# Altium integrated library Renesas Transistor.IntLib: 835 symbols (part 4 of 18)
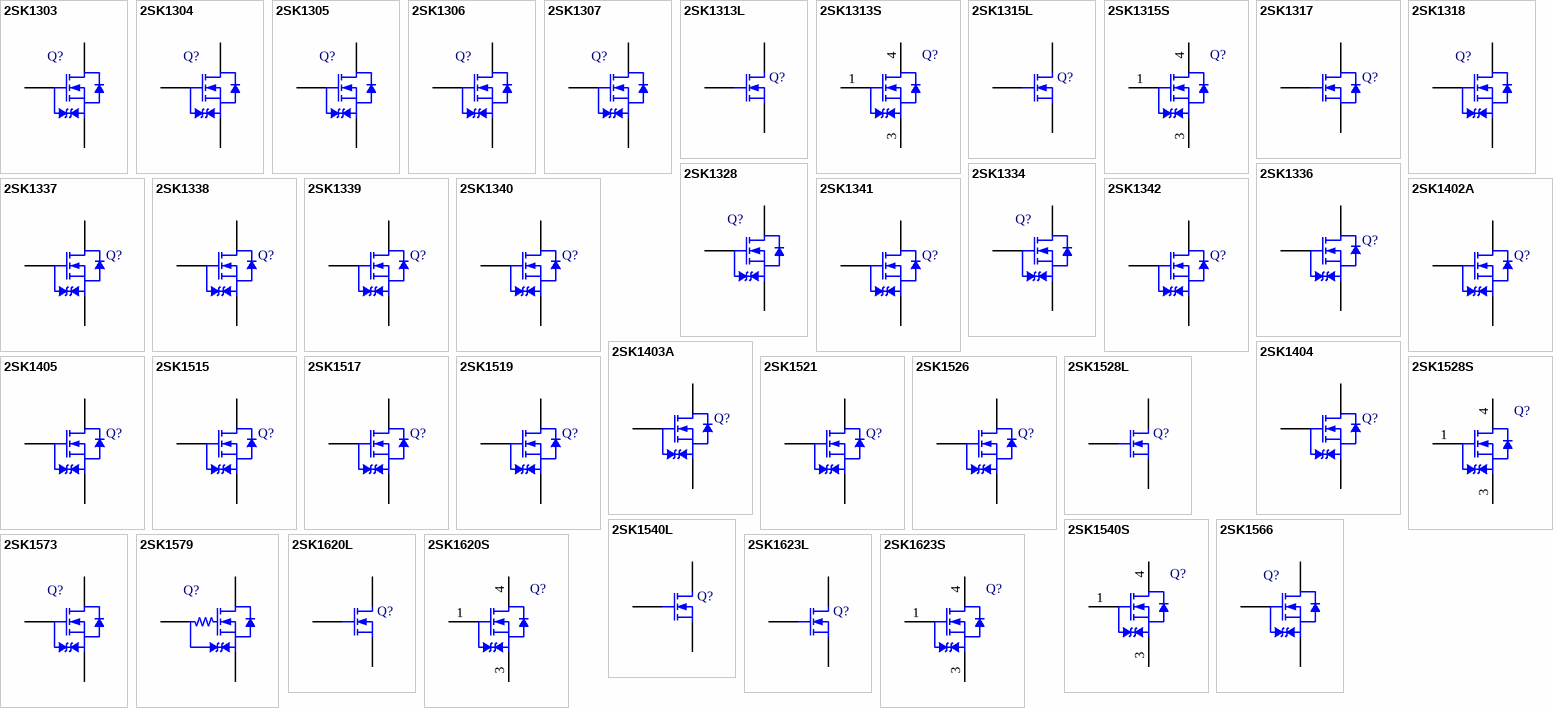
[diagram p25: symbols 2SK1303 to 2SK1623S]

## 2SK1528S
designator Q?
Silicon N-Channel MOSFET; Published: 30-Oct-2009; DatasheetVersion: Rev.2.00, Sep-2005; PackageVersion: Sep-2005; PackageReference: PRSS0004AE-B; Publisher: Altium Limited; PackageDescription: 3-Pin Plastic Transistor Outline Package 8.6 x 10.2 mm Body (LDPAK(S)-(1)); Code_JEITA: SC-83; ComponentLink1Description: Manufacturer Link; ComponentLink1URL: http://sg.renesas.com/fmwk.jsp?cnt=discrete_category_landing.jsp&fp=/products/discrete/; ComponentLink2Description: Datasheet; ComponentLink2URL: http://documentation.renesas.com/eng/products/transistor/rej03g0951_2sk1528lsds.pdf; ComponentLink3Description: Packaging Specification; ComponentLink3URL: http://sg.renesas.com/media/products/common_info/package/pdf/transistor/code/prss0004ae_b.pdf
footprint PRSS0004AE-B_N (TO, 4-Leads, Body 8.6x10.2mm, Pitch 2.54mm, Lead Span 12.8mm, IPC Medium Density)
footprint PRSS0004AE-B_L (TO, 4-Leads, Body 8.6x10.2mm, Pitch 2.54mm, Lead Span 12.8mm, IPC High Density)
footprint PRSS0004AE-B_M (TO, 4-Leads, Body 8.6x10.2mm, Pitch 2.54mm, Lead Span 12.8mm, IPC Low Density)
pins: 1 G, 3 S, 4 D

## 2SK1540L
designator Q?
Silicon N-Channel MOSFET; Published: 30-Oct-2009; DatasheetVersion: Rev.2.00, Sep-2005; PackageVersion: Sep-2005; PackageReference: PRSS0004AE-A; Publisher: Altium Limited; PackageDescription: TO, Thru-Hole, Vertical, Heatsink Mounted; 3 In-Line Leads; Pitch 2.54 mm (LDPAK(L)); ComponentLink1Description: Manufacturer Link; ComponentLink1URL: http://sg.renesas.com/fmwk.jsp?cnt=discrete_category_landing.jsp&fp=/products/discrete/; ComponentLink2Description: Datasheet; ComponentLink2URL: http://documentation.renesas.com/eng/products/transistor/rej03g0952_2sk1540lsds.pdf; ComponentLink3Description: Packaging Specification; ComponentLink3URL: http://sg.renesas.com/media/products/common_info/package/pdf/transistor/code/prss0004ae_a.pdf
footprint PRSS0004AE-A (TO, Thru-Hole, Vertical, Heatsink Mounted; 3 In-Line Leads; Pitch 2.54 mm)
pins: 1 G, 2 D, 3 S

## 2SK1540S
designator Q?
Silicon N-Channel MOSFET; Published: 30-Oct-2009; DatasheetVersion: Rev.2.00, Sep-2005; PackageVersion: Sep-2005; PackageReference: PRSS0004AE-B; Publisher: Altium Limited; PackageDescription: 3-Pin Plastic Transistor Outline Package 8.6 x 10.2 mm Body (LDPAK(S)-(1)); Code_JEITA: SC-83; ComponentLink1Description: Manufacturer Link; ComponentLink1URL: http://sg.renesas.com/fmwk.jsp?cnt=discrete_category_landing.jsp&fp=/products/discrete/; ComponentLink2Description: Datasheet; ComponentLink2URL: http://documentation.renesas.com/eng/products/transistor/rej03g0952_2sk1540lsds.pdf; ComponentLink3Description: Packaging Specification; ComponentLink3URL: http://sg.renesas.com/media/products/common_info/package/pdf/transistor/code/prss0004ae_b.pdf
footprint PRSS0004AE-B_N (TO, 4-Leads, Body 8.6x10.2mm, Pitch 2.54mm, Lead Span 12.8mm, IPC Medium Density)
footprint PRSS0004AE-B_L (TO, 4-Leads, Body 8.6x10.2mm, Pitch 2.54mm, Lead Span 12.8mm, IPC High Density)
footprint PRSS0004AE-B_M (TO, 4-Leads, Body 8.6x10.2mm, Pitch 2.54mm, Lead Span 12.8mm, IPC Low Density)
pins: 1 G, 3 S, 4 D

## 2SK1566
designator Q?
Silicon N-Channel MOSFET; Published: 30-Oct-2009; DatasheetVersion: Rev.2.00, Sep-2005; PackageVersion: Sep-2005; PackageReference: PRSS0003AD-A; Publisher: Altium Limited; PackageDescription: TO, Thru-Hole, Vertical, Heatsink Mounted; 3 In-Line Leads; Pitch 2.54 mm; Code_JEITA: SC-67; ComponentLink1Description: Manufacturer Link; ComponentLink1URL: http://sg.renesas.com/fmwk.jsp?cnt=discrete_category_landing.jsp&fp=/products/discrete/; ComponentLink2Description: Datasheet; ComponentLink2URL: http://documentation.renesas.com/eng/products/transistor/rej03g0953_2sk1566ds.pdf; ComponentLink3Description: Packaging Specification; ComponentLink3URL: http://sg.renesas.com/media/products/common_info/package/pdf/transistor/code/prss0003ad_a.pdf
footprint PRSS0003AD-A (TO, Thru-Hole, Vertical, Heatsink Mounted; 3 In-Line Leads; Pitch 2.54 mm)
pins: 1 G, 2 D, 3 S

## 2SK1573
designator Q?
Silicon N-Channel MOSFET; Published: 30-Oct-2009; DatasheetVersion: Rev.2.00, Sep-2005; PackageVersion: Sep-2005; PackageReference: PRSS0004ZE-A; Publisher: Altium Limited; PackageDescription: TO, Thru-Hole, Vertical, Heatsink Mounted; 3 In-Line Leads; Pitch 5.45 mm (TO-3P); Code_JEITA: SC-65; ComponentLink1Description: Manufacturer Link; ComponentLink1URL: http://sg.renesas.com/fmwk.jsp?cnt=discrete_category_landing.jsp&fp=/products/discrete/; ComponentLink2Description: Datasheet; ComponentLink2URL: http://documentation.renesas.com/eng/products/transistor/rej03g0955_2sk1573ds.pdf; ComponentLink3Description: Packaging Specification; ComponentLink3URL: http://sg.renesas.com/media/products/common_info/package/pdf/transistor/code/prss0004ze_a.pdf
footprint PRSS0004ZE-A (TO, Thru-Hole, Vertical, Heatsink Mounted; 3 In-Line Leads; Pitch 5.45 mm)
pins: 1 G, 2 D, 3 S

## 2SK1579
designator Q?
Silicon N-Channel MOSFET; Published: 30-Oct-2009; DatasheetVersion: Rev.2.00, Sep-2005; PackageVersion: Jan-2005; PackageReference: PLZZ0004CA-A; Publisher: Altium Limited; PackageDescription: 3-Pin Plastic SOT-89 Package 1.5 mm Pitch, 4 mm Lead Span; Code_JEITA: SC-62; Code_IPC: SOT89; ComponentLink1Description: Manufacturer Link; ComponentLink1URL: http://sg.renesas.com/fmwk.jsp?cnt=discrete_category_landing.jsp&fp=/products/discrete/; ComponentLink2Description: Datasheet; ComponentLink2URL: http://documentation.renesas.com/eng/products/transistor/rej03g0956_2sk1579ds.pdf; ComponentLink3Description: Packaging Specification; ComponentLink3URL: http://sg.renesas.com/media/products/common_info/package/pdf/transistor/code/plzz0004ca_a.pdf
footprint PLZZ0004CA-A_N (SOT89, 3-Leads, Body 4.5x2.5 mm, Pitch 1.5mm, Lead Span 4mm, IPC Medium Density)
footprint PLZZ0004CA-A_L (SOT89, 3-Leads, Body 4.5x2.5 mm, Pitch 1.5mm, Lead Span 4mm, IPC High Density)
footprint PLZZ0004CA-A_M (SOT89, 3-Leads, Body 4.5x2.5 mm, Pitch 1.5mm, Lead Span 4mm, IPC Low Density)
pins: 1 G, 2 D, 3 S

## 2SK1620L
designator Q?
Silicon N-Channel MOSFET; Published: 30-Oct-2009; DatasheetVersion: Rev.2.00, Sep-2005; PackageVersion: Sep-2005; PackageReference: PRSS0004AE-A; Publisher: Altium Limited; PackageDescription: TO, Thru-Hole, Vertical, Heatsink Mounted; 3 In-Line Leads; Pitch 2.54 mm (LDPAK(L)); ComponentLink1Description: Manufacturer Link; ComponentLink1URL: http://sg.renesas.com/fmwk.jsp?cnt=discrete_category_landing.jsp&fp=/products/discrete/; ComponentLink2Description: Datasheet; ComponentLink2URL: http://documentation.renesas.com/eng/products/transistor/rej03g0957_2sk1620lsds.pdf; ComponentLink3Description: Packaging Specification; ComponentLink3URL: http://sg.renesas.com/media/products/common_info/package/pdf/transistor/code/prss0004ae_a.pdf
footprint PRSS0004AE-A (TO, Thru-Hole, Vertical, Heatsink Mounted; 3 In-Line Leads; Pitch 2.54 mm)
pins: 1 G, 2 D, 3 S

## 2SK1620S
designator Q?
Silicon N-Channel MOSFET; Published: 30-Oct-2009; DatasheetVersion: Rev.2.00, Sep-2005; PackageVersion: Sep-2005; PackageReference: PRSS0004AE-B; Publisher: Altium Limited; PackageDescription: 3-Pin Plastic Transistor Outline Package 8.6 x 10.2 mm Body (LDPAK(S)-(1)); Code_JEITA: SC-83; ComponentLink1Description: Manufacturer Link; ComponentLink1URL: http://sg.renesas.com/fmwk.jsp?cnt=discrete_category_landing.jsp&fp=/products/discrete/; ComponentLink2Description: Datasheet; ComponentLink2URL: http://documentation.renesas.com/eng/products/transistor/rej03g0957_2sk1620lsds.pdf; ComponentLink3Description: Packaging Specification; ComponentLink3URL: http://sg.renesas.com/media/products/common_info/package/pdf/transistor/code/prss0004ae_b.pdf
footprint PRSS0004AE-B_N (TO, 4-Leads, Body 8.6x10.2mm, Pitch 2.54mm, Lead Span 12.8mm, IPC Medium Density)
footprint PRSS0004AE-B_L (TO, 4-Leads, Body 8.6x10.2mm, Pitch 2.54mm, Lead Span 12.8mm, IPC High Density)
footprint PRSS0004AE-B_M (TO, 4-Leads, Body 8.6x10.2mm, Pitch 2.54mm, Lead Span 12.8mm, IPC Low Density)
pins: 1 G, 3 S, 4 D

## 2SK1623L
designator Q?
Silicon N-Channel MOSFET; Published: 30-Oct-2009; DatasheetVersion: Rev.3.00, Jan-2006; PackageVersion: Sep-2005; PackageReference: PRSS0004AE-A; Publisher: Altium Limited; PackageDescription: TO, Thru-Hole, Vertical, Heatsink Mounted; 3 In-Line Leads; Pitch 2.54 mm (LDPAK(L)); ComponentLink1Description: Manufacturer Link; ComponentLink1URL: http://sg.renesas.com/fmwk.jsp?cnt=discrete_category_landing.jsp&fp=/products/discrete/; ComponentLink2Description: Datasheet; ComponentLink2URL: http://documentation.renesas.com/eng/products/transistor/rej03g0958_2sk1623lsds.pdf; ComponentLink3Description: Packaging Specification; ComponentLink3URL: http://sg.renesas.com/media/products/common_info/package/pdf/transistor/code/prss0004ae_a.pdf
footprint PRSS0004AE-A (TO, Thru-Hole, Vertical, Heatsink Mounted; 3 In-Line Leads; Pitch 2.54 mm)
pins: 1 G, 2 D, 3 S

## 2SK1623S
designator Q?
Silicon N-Channel MOSFET; Published: 30-Oct-2009; DatasheetVersion: Rev.3.00, Jan-2006; PackageVersion: Sep-2005; PackageReference: PRSS0004AE-B; Publisher: Altium Limited; PackageDescription: 3-Pin Plastic Transistor Outline Package 8.6 x 10.2 mm Body (LDPAK(S)-(1)); Code_JEITA: SC-83; ComponentLink1Description: Manufacturer Link; ComponentLink1URL: http://sg.renesas.com/fmwk.jsp?cnt=discrete_category_landing.jsp&fp=/products/discrete/; ComponentLink2Description: Datasheet; ComponentLink2URL: http://documentation.renesas.com/eng/products/transistor/rej03g0958_2sk1623lsds.pdf; ComponentLink3Description: Packaging Specification; ComponentLink3URL: http://sg.renesas.com/media/products/common_info/package/pdf/transistor/code/prss0004ae_b.pdf
footprint PRSS0004AE-B_N (TO, 4-Leads, Body 8.6x10.2mm, Pitch 2.54mm, Lead Span 12.8mm, IPC Medium Density)
footprint PRSS0004AE-B_L (TO, 4-Leads, Body 8.6x10.2mm, Pitch 2.54mm, Lead Span 12.8mm, IPC High Density)
footprint PRSS0004AE-B_M (TO, 4-Leads, Body 8.6x10.2mm, Pitch 2.54mm, Lead Span 12.8mm, IPC Low Density)
pins: 1 G, 3 S, 4 D

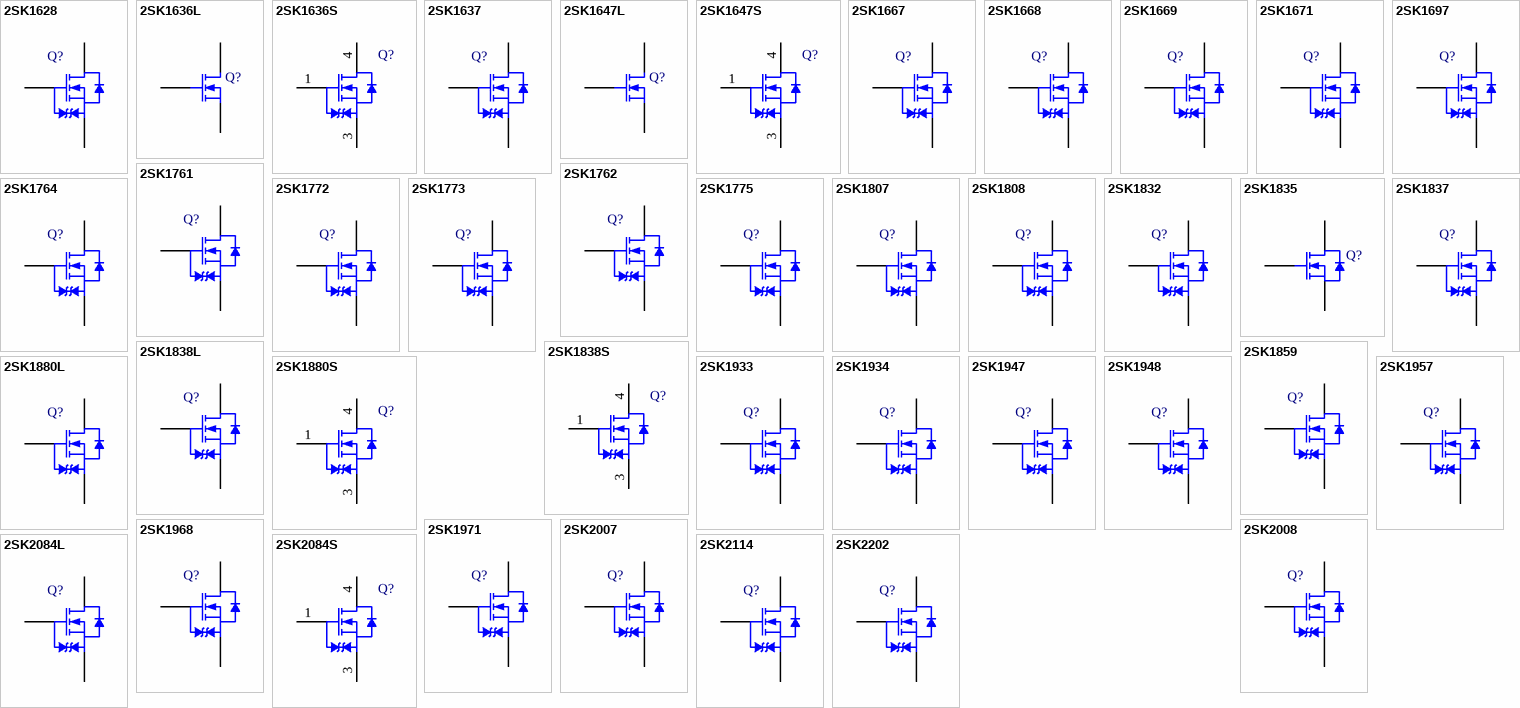
[diagram p4: symbols 2SK1628 to 2SK2202]

## 2SK1628
designator Q?
Silicon N-Channel MOSFET; Published: 30-Oct-2009; DatasheetVersion: Rev.4.00, May-2009; PackageVersion: Sep-2005; PackageReference: PRSS0004ZF-A; Publisher: Altium Limited; PackageDescription: SIP with Mounting Hole; 3 Leads; Body 26 x 20 x 5 mm (typ); Pitch 5.45 mm (TO-3PL); ComponentLink1Description: Manufacturer Link; ComponentLink1URL: http://sg.renesas.com/fmwk.jsp?cnt=discrete_category_landing.jsp&fp=/products/discrete/; ComponentLink2Description: Datasheet; ComponentLink2URL: http://documentation.renesas.com/eng/products/transistor/rej03g0960_2sk1628ds.pdf; ComponentLink3Description: Packaging Specification; ComponentLink3URL: http://sg.renesas.com/media/products/common_info/package/pdf/transistor/code/prss0004zf_a.pdf
footprint PRSS0004ZF-A (SIP with Mounting Hole; 3 Leads; Body 26 x 20 x 5 mm (typ); Pitch 5.45 mm)
pins: 1 G, 2 D, 3 S

## 2SK1636L
designator Q?
Silicon N-Channel MOSFET; Published: 30-Oct-2009; DatasheetVersion: Rev.2.00, Sep-2005; PackageVersion: Sep-2005; PackageReference: PRSS0004AE-A; Publisher: Altium Limited; PackageDescription: TO, Thru-Hole, Vertical, Heatsink Mounted; 3 In-Line Leads; Pitch 2.54 mm (LDPAK(L)); ComponentLink1Description: Manufacturer Link; ComponentLink1URL: http://sg.renesas.com/fmwk.jsp?cnt=discrete_category_landing.jsp&fp=/products/discrete/; ComponentLink2Description: Datasheet; ComponentLink2URL: http://documentation.renesas.com/eng/products/transistor/rej03g0961_2sk1636lsds.pdf; ComponentLink3Description: Packaging Specification; ComponentLink3URL: http://sg.renesas.com/media/products/common_info/package/pdf/transistor/code/prss0004ae_a.pdf
footprint PRSS0004AE-A (TO, Thru-Hole, Vertical, Heatsink Mounted; 3 In-Line Leads; Pitch 2.54 mm)
pins: 1 G, 2 D, 3 S

## 2SK1636S
designator Q?
Silicon N-Channel MOSFET; Published: 30-Oct-2009; DatasheetVersion: Rev.2.00, Sep-2005; PackageVersion: Sep-2005; PackageReference: PRSS0004AE-B; Publisher: Altium Limited; PackageDescription: 3-Pin Plastic Transistor Outline Package 8.6 x 10.2 mm Body (LDPAK(S)-(1)); Code_JEITA: SC-83; ComponentLink1Description: Manufacturer Link; ComponentLink1URL: http://sg.renesas.com/fmwk.jsp?cnt=discrete_category_landing.jsp&fp=/products/discrete/; ComponentLink2Description: Datasheet; ComponentLink2URL: http://documentation.renesas.com/eng/products/transistor/rej03g0961_2sk1636lsds.pdf; ComponentLink3Description: Packaging Specification; ComponentLink3URL: http://sg.renesas.com/media/products/common_info/package/pdf/transistor/code/prss0004ae_b.pdf
footprint PRSS0004AE-B_N (TO, 4-Leads, Body 8.6x10.2mm, Pitch 2.54mm, Lead Span 12.8mm, IPC Medium Density)
footprint PRSS0004AE-B_L (TO, 4-Leads, Body 8.6x10.2mm, Pitch 2.54mm, Lead Span 12.8mm, IPC High Density)
footprint PRSS0004AE-B_M (TO, 4-Leads, Body 8.6x10.2mm, Pitch 2.54mm, Lead Span 12.8mm, IPC Low Density)
pins: 1 G, 3 S, 4 D

## 2SK1637
designator Q?
Silicon N-Channel MOSFET; Published: 30-Oct-2009; DatasheetVersion: Rev.2.00, Sep-2005; PackageVersion: Sep-2005; PackageReference: PRSS0003AD-A; Publisher: Altium Limited; PackageDescription: TO, Thru-Hole, Vertical, Heatsink Mounted; 3 In-Line Leads; Pitch 2.54 mm; Code_JEITA: SC-67; ComponentLink1Description: Manufacturer Link; ComponentLink1URL: http://sg.renesas.com/fmwk.jsp?cnt=discrete_category_landing.jsp&fp=/products/discrete/; ComponentLink2Description: Datasheet; ComponentLink2URL: http://documentation.renesas.com/eng/products/transistor/rej03g0962_2sk1637ds.pdf; ComponentLink3Description: Packaging Specification; ComponentLink3URL: http://sg.renesas.com/media/products/common_info/package/pdf/transistor/code/prss0003ad_a.pdf
footprint PRSS0003AD-A (TO, Thru-Hole, Vertical, Heatsink Mounted; 3 In-Line Leads; Pitch 2.54 mm)
pins: 1 G, 2 D, 3 S

## 2SK1647L
designator Q?
Silicon N-Channel MOSFET; Published: 30-Oct-2009; DatasheetVersion: Rev.2.00, Sep-2005; PackageVersion: Sep-2005; PackageReference: PRSS0004AE-A; Publisher: Altium Limited; PackageDescription: TO, Thru-Hole, Vertical, Heatsink Mounted; 3 In-Line Leads; Pitch 2.54 mm (LDPAK(L)); ComponentLink1Description: Manufacturer Link; ComponentLink1URL: http://sg.renesas.com/fmwk.jsp?cnt=discrete_category_landing.jsp&fp=/products/discrete/; ComponentLink2Description: Datasheet; ComponentLink2URL: http://documentation.renesas.com/eng/products/transistor/rej03g0963_2sk1647lsds.pdf; ComponentLink3Description: Packaging Specification; ComponentLink3URL: http://sg.renesas.com/media/products/common_info/package/pdf/transistor/code/prss0004ae_a.pdf
footprint PRSS0004AE-A (TO, Thru-Hole, Vertical, Heatsink Mounted; 3 In-Line Leads; Pitch 2.54 mm)
pins: 1 G, 2 D, 3 S

## 2SK1647S
designator Q?
Silicon N-Channel MOSFET; Published: 30-Oct-2009; DatasheetVersion: Rev.2.00, Sep-2005; PackageVersion: Sep-2005; PackageReference: PRSS0004AE-B; Publisher: Altium Limited; PackageDescription: 3-Pin Plastic Transistor Outline Package 8.6 x 10.2 mm Body (LDPAK(S)-(1)); Code_JEITA: SC-83; ComponentLink1Description: Manufacturer Link; ComponentLink1URL: http://sg.renesas.com/fmwk.jsp?cnt=discrete_category_landing.jsp&fp=/products/discrete/; ComponentLink2Description: Datasheet; ComponentLink2URL: http://documentation.renesas.com/eng/products/transistor/rej03g0963_2sk1647lsds.pdf; ComponentLink3Description: Packaging Specification; ComponentLink3URL: http://sg.renesas.com/media/products/common_info/package/pdf/transistor/code/prss0004ae_b.pdf
footprint PRSS0004AE-B_N (TO, 4-Leads, Body 8.6x10.2mm, Pitch 2.54mm, Lead Span 12.8mm, IPC Medium Density)
footprint PRSS0004AE-B_L (TO, 4-Leads, Body 8.6x10.2mm, Pitch 2.54mm, Lead Span 12.8mm, IPC High Density)
footprint PRSS0004AE-B_M (TO, 4-Leads, Body 8.6x10.2mm, Pitch 2.54mm, Lead Span 12.8mm, IPC Low Density)
pins: 1 G, 3 S, 4 D

## 2SK1667
designator Q?
Silicon N-Channel MOSFET; Published: 30-Oct-2009; DatasheetVersion: Rev.2.00, Sep-2005; PackageVersion: Sep-2005; PackageReference: PRSS0004AC-A; Publisher: Altium Limited; PackageDescription: TO, Thru-Hole, Vertical, Heatsink Mounted; 3 In-Line Leads; Pitch 2.54 mm (TO-220AB); Code_JEITA: SC-46; ComponentLink1Description: Manufacturer Link; ComponentLink1URL: http://sg.renesas.com/fmwk.jsp?cnt=discrete_category_landing.jsp&fp=/products/discrete/; ComponentLink2Description: Datasheet; ComponentLink2URL: http://documentation.renesas.com/eng/products/transistor/rej03g0964_2sk1667ds.pdf; ComponentLink3Description: Packaging Specification; ComponentLink3URL: http://sg.renesas.com/media/products/common_info/package/pdf/transistor/code/prss0004ac_a.pdf
footprint PRSS0004AC-A (TO, Thru-Hole, Vertical, Heatsink Mounted; 3 In-Line Leads; Pitch 2.54 mm)
pins: 1 G, 2 D, 3 S

## 2SK1668
designator Q?
Silicon N-Channel MOSFET; Published: 30-Oct-2009; DatasheetVersion: Rev.2.00, Sep-2005; PackageVersion: Sep-2005; PackageReference: PRSS0003AD-A; Publisher: Altium Limited; PackageDescription: TO, Thru-Hole, Vertical, Heatsink Mounted; 3 In-Line Leads; Pitch 2.54 mm; Code_JEITA: SC-67; ComponentLink1Description: Manufacturer Link; ComponentLink1URL: http://sg.renesas.com/fmwk.jsp?cnt=discrete_category_landing.jsp&fp=/products/discrete/; ComponentLink2Description: Datasheet; ComponentLink2URL: http://documentation.renesas.com/eng/products/transistor/rej03g0965_2sk1668ds.pdf; ComponentLink3Description: Packaging Specification; ComponentLink3URL: http://sg.renesas.com/media/products/common_info/package/pdf/transistor/code/prss0003ad_a.pdf
footprint PRSS0003AD-A (TO, Thru-Hole, Vertical, Heatsink Mounted; 3 In-Line Leads; Pitch 2.54 mm)
pins: 1 G, 2 D, 3 S

## 2SK1669
designator Q?
Silicon N-Channel MOSFET; Published: 30-Oct-2009; DatasheetVersion: Rev.2.00, Sep-2005; PackageVersion: Sep-2005; PackageReference: PRSS0004ZE-A; Publisher: Altium Limited; PackageDescription: TO, Thru-Hole, Vertical, Heatsink Mounted; 3 In-Line Leads; Pitch 5.45 mm (TO-3P); Code_JEITA: SC-65; ComponentLink1Description: Manufacturer Link; ComponentLink1URL: http://sg.renesas.com/fmwk.jsp?cnt=discrete_category_landing.jsp&fp=/products/discrete/; ComponentLink2Description: Datasheet; ComponentLink2URL: http://documentation.renesas.com/eng/products/transistor/rej03g0966_2sk1669ds.pdf; ComponentLink3Description: Packaging Specification; ComponentLink3URL: http://sg.renesas.com/media/products/common_info/package/pdf/transistor/code/prss0004ze_a.pdf
footprint PRSS0004ZE-A (TO, Thru-Hole, Vertical, Heatsink Mounted; 3 In-Line Leads; Pitch 5.45 mm)
pins: 1 G, 2 D, 3 S

## 2SK1671
designator Q?
Silicon N-Channel MOSFET; Published: 30-Oct-2009; DatasheetVersion: Rev.2.00, Sep-2005; PackageVersion: Sep-2005; PackageReference: PRSS0004ZE-A; Publisher: Altium Limited; PackageDescription: TO, Thru-Hole, Vertical, Heatsink Mounted; 3 In-Line Leads; Pitch 5.45 mm (TO-3P); Code_JEITA: SC-65; ComponentLink1Description: Manufacturer Link; ComponentLink1URL: http://sg.renesas.com/fmwk.jsp?cnt=discrete_category_landing.jsp&fp=/products/discrete/; ComponentLink2Description: Datasheet; ComponentLink2URL: http://documentation.renesas.com/eng/products/transistor/rej03g0967_2sk1671ds.pdf; ComponentLink3Description: Packaging Specification; ComponentLink3URL: http://sg.renesas.com/media/products/common_info/package/pdf/transistor/code/prss0004ze_a.pdf
footprint PRSS0004ZE-A (TO, Thru-Hole, Vertical, Heatsink Mounted; 3 In-Line Leads; Pitch 5.45 mm)
pins: 1 G, 2 D, 3 S

## 2SK1697
designator Q?
Silicon N Chanel MOSFET; Published: 30-Oct-2009; DatasheetVersion: Rev.2.00, May-2006; PackageVersion: Jan-2005; PackageReference: PLZZ0004CA-A; Publisher: Altium Limited; PackageDescription: 3-Pin Plastic SOT-89 Package 1.5 mm Pitch, 4 mm Lead Span; Code_JEITA: SC-62; Code_IPC: SOT89; ComponentLink1Description: Manufacturer Link; ComponentLink1URL: http://sg.renesas.com/fmwk.jsp?cnt=discrete_category_landing.jsp&fp=/products/discrete/; ComponentLink2Description: Datasheet; ComponentLink2URL: http://documentation.renesas.com/eng/products/transistor/rej03g1373_2sk1697ds.pdf; ComponentLink3Description: Packaging Specification; ComponentLink3URL: http://sg.renesas.com/media/products/common_info/package/pdf/transistor/code/plzz0004ca_a.pdf
footprint PLZZ0004CA-A_N (SOT89, 3-Leads, Body 4.5x2.5 mm, Pitch 1.5mm, Lead Span 4mm, IPC Medium Density)
footprint PLZZ0004CA-A_L (SOT89, 3-Leads, Body 4.5x2.5 mm, Pitch 1.5mm, Lead Span 4mm, IPC High Density)
footprint PLZZ0004CA-A_M (SOT89, 3-Leads, Body 4.5x2.5 mm, Pitch 1.5mm, Lead Span 4mm, IPC Low Density)
pins: 1 G, 2 D, 3 S

## 2SK1761
designator Q?
Silicon N-Channel MOSFET; Published: 30-Oct-2009; DatasheetVersion: Rev.2.00, Sep-2005; PackageVersion: Sep-2005; PackageReference: PRSS0004AC-A; Publisher: Altium Limited; PackageDescription: TO, Thru-Hole, Vertical, Heatsink Mounted; 3 In-Line Leads; Pitch 2.54 mm (TO-220AB); Code_JEITA: SC-46; ComponentLink1Description: Manufacturer Link; ComponentLink1URL: http://sg.renesas.com/fmwk.jsp?cnt=discrete_category_landing.jsp&fp=/products/discrete/; ComponentLink2Description: Datasheet; ComponentLink2URL: http://documentation.renesas.com/eng/products/transistor/rej03g0968_2sk1761ds.pdf; ComponentLink3Description: Packaging Specification; ComponentLink3URL: http://sg.renesas.com/media/products/common_info/package/pdf/transistor/code/prss0004ac_a.pdf
footprint PRSS0004AC-A (TO, Thru-Hole, Vertical, Heatsink Mounted; 3 In-Line Leads; Pitch 2.54 mm)
pins: 1 G, 2 D, 3 S

## 2SK1762
designator Q?
Silicon N-Channel MOSFET; Published: 30-Oct-2009; DatasheetVersion: Rev.2.00, Sep-2005; PackageVersion: Sep-2005; PackageReference: PRSS0003AD-A; Publisher: Altium Limited; PackageDescription: TO, Thru-Hole, Vertical, Heatsink Mounted; 3 In-Line Leads; Pitch 2.54 mm; Code_JEITA: SC-67; ComponentLink1Description: Manufacturer Link; ComponentLink1URL: http://sg.renesas.com/fmwk.jsp?cnt=discrete_category_landing.jsp&fp=/products/discrete/; ComponentLink2Description: Datasheet; ComponentLink2URL: http://documentation.renesas.com/eng/products/transistor/rej03g0969_2sk1762ds.pdf; ComponentLink3Description: Packaging Specification; ComponentLink3URL: http://sg.renesas.com/media/products/common_info/package/pdf/transistor/code/prss0003ad_a.pdf
footprint PRSS0003AD-A (TO, Thru-Hole, Vertical, Heatsink Mounted; 3 In-Line Leads; Pitch 2.54 mm)
pins: 1 G, 2 D, 3 S

## 2SK1764
designator Q?
Silicon N-Channel MOSFET; Published: 30-Oct-2009; DatasheetVersion: Rev.2.00, Sep-2005; PackageVersion: Jan-2005; PackageReference: PLZZ0004CA-A; Publisher: Altium Limited; PackageDescription: 3-Pin Plastic SOT-89 Package 1.5 mm Pitch, 4 mm Lead Span; Code_JEITA: SC-62; Code_IPC: SOT89; ComponentLink1Description: Manufacturer Link; ComponentLink1URL: http://sg.renesas.com/fmwk.jsp?cnt=discrete_category_landing.jsp&fp=/products/discrete/; ComponentLink2Description: Datasheet; ComponentLink2URL: http://documentation.renesas.com/eng/products/transistor/rej03g0970_2sk1764ds.pdf; ComponentLink3Description: Packaging Specification; ComponentLink3URL: http://sg.renesas.com/media/products/common_info/package/pdf/transistor/code/plzz0004ca_a.pdf
footprint PLZZ0004CA-A_N (SOT89, 3-Leads, Body 4.5x2.5 mm, Pitch 1.5mm, Lead Span 4mm, IPC Medium Density)
footprint PLZZ0004CA-A_L (SOT89, 3-Leads, Body 4.5x2.5 mm, Pitch 1.5mm, Lead Span 4mm, IPC High Density)
footprint PLZZ0004CA-A_M (SOT89, 3-Leads, Body 4.5x2.5 mm, Pitch 1.5mm, Lead Span 4mm, IPC Low Density)
pins: 1 G, 2 D, 3 S

## 2SK1772
designator Q?
Silicon N-Channel MOSFET; Published: 30-Oct-2009; DatasheetVersion: Rev.2.00, Sep-2005; PackageVersion: Jan-2005; PackageReference: PLZZ0004CA-A; Publisher: Altium Limited; PackageDescription: 3-Pin Plastic SOT-89 Package 1.5 mm Pitch, 4 mm Lead Span; Code_JEITA: SC-62; Code_IPC: SOT89; ComponentLink1Description: Manufacturer Link; ComponentLink1URL: http://sg.renesas.com/fmwk.jsp?cnt=discrete_category_landing.jsp&fp=/products/discrete/; ComponentLink2Description: Datasheet; ComponentLink2URL: http://documentation.renesas.com/eng/products/transistor/rej03g0971_2sk1772ds.pdf; ComponentLink3Description: Packaging Specification; ComponentLink3URL: http://sg.renesas.com/media/products/common_info/package/pdf/transistor/code/plzz0004ca_a.pdf
footprint PLZZ0004CA-A_N (SOT89, 3-Leads, Body 4.5x2.5 mm, Pitch 1.5mm, Lead Span 4mm, IPC Medium Density)
footprint PLZZ0004CA-A_L (SOT89, 3-Leads, Body 4.5x2.5 mm, Pitch 1.5mm, Lead Span 4mm, IPC High Density)
footprint PLZZ0004CA-A_M (SOT89, 3-Leads, Body 4.5x2.5 mm, Pitch 1.5mm, Lead Span 4mm, IPC Low Density)
pins: 1 G, 2 D, 3 S

## 2SK1773
designator Q?
Silicon N-Channel MOSFET; Published: 30-Oct-2009; DatasheetVersion: Rev.2.00, Sep-2005; PackageVersion: Sep-2005; PackageReference: PRSS0004ZE-A; Publisher: Altium Limited; PackageDescription: TO, Thru-Hole, Vertical, Heatsink Mounted; 3 In-Line Leads; Pitch 5.45 mm (TO-3P); Code_JEITA: SC-65; ComponentLink1Description: Manufacturer Link; ComponentLink1URL: http://sg.renesas.com/fmwk.jsp?cnt=discrete_category_landing.jsp&fp=/products/discrete/; ComponentLink2Description: Datasheet; ComponentLink2URL: http://documentation.renesas.com/eng/products/transistor/rej03g0972_2sk1773ds.pdf; ComponentLink3Description: Packaging Specification; ComponentLink3URL: http://sg.renesas.com/media/products/common_info/package/pdf/transistor/code/prss0004ze_a.pdf
footprint PRSS0004ZE-A (TO, Thru-Hole, Vertical, Heatsink Mounted; 3 In-Line Leads; Pitch 5.45 mm)
pins: 1 G, 2 D, 3 S

## 2SK1775
designator Q?
Silicon N-Channel MOSFET; Published: 30-Oct-2009; DatasheetVersion: Rev.2.00, Sep-2005; PackageVersion: Sep-2005; PackageReference: PRSS0003ZA-A; Publisher: Altium Limited; PackageDescription: SIP with Mounting Hole; 3 Leads; Body 19.9 x 15.6 x 5.5 mm (typ); Pitch 5.45 mm (TO-3PFM); Code_JEITA: SC-93; ComponentLink1Description: Manufacturer Link; ComponentLink1URL: http://sg.renesas.com/fmwk.jsp?cnt=discrete_category_landing.jsp&fp=/products/discrete/; ComponentLink2Description: Datasheet; ComponentLink2URL: http://documentation.renesas.com/eng/products/transistor/rej03g0973_2sk1775ds.pdf; ComponentLink3Description: Packaging Specification; ComponentLink3URL: http://sg.renesas.com/media/products/common_info/package/pdf/transistor/code/prss0003za_a.pdf
footprint PRSS0003ZA-A (SIP with Mounting Hole; 3 Leads; Body 19.9 x 15.6 x 5.5 mm (typ); Pitch 5.45 mm)
pins: 1 G, 2 D, 3 S

## 2SK1807
designator Q?
Silicon N-Channel MOSFET; Published: 30-Oct-2009; DatasheetVersion: Rev.2.00, Sep-2005; PackageVersion: Sep-2005; PackageReference: PRSS0004AC-A; Publisher: Altium Limited; PackageDescription: TO, Thru-Hole, Vertical, Heatsink Mounted; 3 In-Line Leads; Pitch 2.54 mm (TO-220AB); Code_JEITA: SC-46; ComponentLink1Description: Manufacturer Link; ComponentLink1URL: http://sg.renesas.com/fmwk.jsp?cnt=discrete_category_landing.jsp&fp=/products/discrete/; ComponentLink2Description: Datasheet; ComponentLink2URL: http://documentation.renesas.com/eng/products/transistor/rej03g0974_2sk1807ds.pdf; ComponentLink3Description: Packaging Specification; ComponentLink3URL: http://sg.renesas.com/media/products/common_info/package/pdf/transistor/code/prss0004ac_a.pdf
footprint PRSS0004AC-A (TO, Thru-Hole, Vertical, Heatsink Mounted; 3 In-Line Leads; Pitch 2.54 mm)
pins: 1 G, 2 D, 3 S

## 2SK1808
designator Q?
Silicon N-Channel MOSFET; Published: 30-Oct-2009; DatasheetVersion: Rev.2.00, Sep-2005; PackageVersion: Sep-2005; PackageReference: PRSS0003AD-A; Publisher: Altium Limited; PackageDescription: TO, Thru-Hole, Vertical, Heatsink Mounted; 3 In-Line Leads; Pitch 2.54 mm; Code_JEITA: SC-67; ComponentLink1Description: Manufacturer Link; ComponentLink1URL: http://sg.renesas.com/fmwk.jsp?cnt=discrete_category_landing.jsp&fp=/products/discrete/; ComponentLink2Description: Datasheet; ComponentLink2URL: http://documentation.renesas.com/eng/products/transistor/rej03g0975_2sk1808ds.pdf; ComponentLink3Description: Packaging Specification; ComponentLink3URL: http://sg.renesas.com/media/products/common_info/package/pdf/transistor/code/prss0003ad_a.pdf
footprint PRSS0003AD-A (TO, Thru-Hole, Vertical, Heatsink Mounted; 3 In-Line Leads; Pitch 2.54 mm)
pins: 1 G, 2 D, 3 S

## 2SK1832
designator Q?
Silicon N-Channel MOSFET; Published: 30-Oct-2009; DatasheetVersion: Rev.2.00, Sep-2005; PackageVersion: Sep-2005; PackageReference: PRSS0003ZA-A; Publisher: Altium Limited; PackageDescription: SIP with Mounting Hole; 3 Leads; Body 19.9 x 15.6 x 5.5 mm (typ); Pitch 5.45 mm (TO-3PFM); Code_JEITA: SC-93; ComponentLink1Description: Manufacturer Link; ComponentLink1URL: http://sg.renesas.com/fmwk.jsp?cnt=discrete_category_landing.jsp&fp=/products/discrete/; ComponentLink2Description: Datasheet; ComponentLink2URL: http://documentation.renesas.com/eng/products/transistor/rej03g0977_2sk1832ds.pdf; ComponentLink3Description: Packaging Specification; ComponentLink3URL: http://sg.renesas.com/media/products/common_info/package/pdf/transistor/code/prss0003za_a.pdf
footprint PRSS0003ZA-A (SIP with Mounting Hole; 3 Leads; Body 19.9 x 15.6 x 5.5 mm (typ); Pitch 5.45 mm)
pins: 1 G, 2 D, 3 S

## 2SK1835
designator Q?
Silicon N-Channel MOSFET; Published: 30-Oct-2009; DatasheetVersion: Rev.4.00, Jun-2008; PackageVersion: Sep-2005; PackageReference: PRSS0004ZE-A; Publisher: Altium Limited; PackageDescription: TO, Thru-Hole, Vertical, Heatsink Mounted; 3 In-Line Leads; Pitch 5.45 mm (TO-3P); Code_JEITA: SC-65; ComponentLink1Description: Manufacturer Link; ComponentLink1URL: http://sg.renesas.com/fmwk.jsp?cnt=discrete_category_landing.jsp&fp=/products/discrete/; ComponentLink2Description: Datasheet; ComponentLink2URL: http://documentation.renesas.com/eng/products/transistor/rej03g0978_2sk1835ds.pdf; ComponentLink3Description: Packaging Specification; ComponentLink3URL: http://sg.renesas.com/media/products/common_info/package/pdf/transistor/code/prss0004ze_a.pdf
footprint PRSS0004ZE-A (TO, Thru-Hole, Vertical, Heatsink Mounted; 3 In-Line Leads; Pitch 5.45 mm)
pins: 1 G, 2 D, 3 S

## 2SK1837
designator Q?
Silicon N-Channel MOSFET; Published: 30-Oct-2009; DatasheetVersion: Rev.3.00, May-2009; PackageVersion: Sep-2005; PackageReference: PRSS0004ZF-A; Publisher: Altium Limited; PackageDescription: SIP with Mounting Hole; 3 Leads; Body 26 x 20 x 5 mm (typ); Pitch 5.45 mm (TO-3PL); ComponentLink1Description: Manufacturer Link; ComponentLink1URL: http://sg.renesas.com/fmwk.jsp?cnt=discrete_category_landing.jsp&fp=/products/discrete/; ComponentLink2Description: Datasheet; ComponentLink2URL: http://documentation.renesas.com/eng/products/transistor/rej03g0979_2sk1837ds.pdf; ComponentLink3Description: Packaging Specification; ComponentLink3URL: http://sg.renesas.com/media/products/common_info/package/pdf/transistor/code/prss0004zf_a.pdf
footprint PRSS0004ZF-A (SIP with Mounting Hole; 3 Leads; Body 26 x 20 x 5 mm (typ); Pitch 5.45 mm)
pins: 1 G, 2 D, 3 S

## 2SK1838L
designator Q?
Silicon N-Channel MOSFET; Published: 30-Oct-2009; DatasheetVersion: Rev.3.00, Nov-2005; PackageVersion: Sep-2005; PackageReference: PRSS0004ZD-A; Publisher: Altium Limited; PackageDescription: TO, Thru-Hole, Vertical, Heatsink Mounted; 3 In-Line Leads (DPAK(L)-(1)); ComponentLink1Description: Manufacturer Link; ComponentLink1URL: http://sg.renesas.com/fmwk.jsp?cnt=discrete_category_landing.jsp&fp=/products/discrete/; ComponentLink2Description: Datasheet; ComponentLink2URL: http://documentation.renesas.com/eng/products/transistor/rej03g0980_2sk1838lsds.pdf; ComponentLink3Description: Packaging Specification; ComponentLink3URL: http://sg.renesas.com/media/products/common_info/package/pdf/transistor/code/prss0004zd_a.pdf
footprint PRSS0004ZD-A (TO, Thru-Hole, Vertical, Heatsink Mounted; 3 In-Line Leads; Pitch 2.28 mm)
pins: 1 G, 2 D, 3 S

## 2SK1838S
designator Q?
Silicon N-Channel MOSFET; Published: 30-Oct-2009; DatasheetVersion: Rev.3.00, Nov-2005; PackageVersion: Jan-2006; PackageReference: PRSS0004ZD-C; Publisher: Altium Limited; PackageDescription: 3-Pin Plastic Transistor Outline Package, 5.5 x 6.5 mm Body (DPAK(S)); Code_JEITA: SC-63; ComponentLink1Description: Manufacturer Link; ComponentLink1URL: http://sg.renesas.com/fmwk.jsp?cnt=discrete_category_landing.jsp&fp=/products/discrete/; ComponentLink2Description: Datasheet; ComponentLink2URL: http://documentation.renesas.com/eng/products/transistor/rej03g0980_2sk1838lsds.pdf; ComponentLink3Description: Packaging Specification; ComponentLink3URL: http://sg.renesas.com/media/products/common_info/package/pdf/transistor/code/prss0004zd_c.pdf
footprint PRSS0004ZD-C_N (D-PAK, 4-Leads, Body 5.5x6.5mm, Pitch 2.3mm, Lead Span 9.9mm, IPC Medium Density)
footprint PRSS0004ZD-C_L (D-PAK, 4-Leads, Body 5.5x6.5mm, Pitch 2.3mm, Lead Span 9.9mm, IPC High Density)
footprint PRSS0004ZD-C_M (D-PAK, 4-Leads, Body 5.5x6.5mm, Pitch 2.3mm, Lead Span 9.9mm, IPC Low Density)
pins: 1 G, 3 S, 4 D

## 2SK1859
designator Q?
Silicon N-Channel MOSFET; Published: 30-Oct-2009; DatasheetVersion: Rev.2.00, Sep-2005; PackageVersion: Sep-2005; PackageReference: PRSS0003ZA-A; Publisher: Altium Limited; PackageDescription: SIP with Mounting Hole; 3 Leads; Body 19.9 x 15.6 x 5.5 mm (typ); Pitch 5.45 mm (TO-3PFM); Code_JEITA: SC-93; ComponentLink1Description: Manufacturer Link; ComponentLink1URL: http://sg.renesas.com/fmwk.jsp?cnt=discrete_category_landing.jsp&fp=/products/discrete/; ComponentLink2Description: Datasheet; ComponentLink2URL: http://documentation.renesas.com/eng/products/transistor/rej03g0981_2sk1859ds.pdf; ComponentLink3Description: Packaging Specification; ComponentLink3URL: http://sg.renesas.com/media/products/common_info/package/pdf/transistor/code/prss0003za_a.pdf
footprint PRSS0003ZA-A (SIP with Mounting Hole; 3 Leads; Body 19.9 x 15.6 x 5.5 mm (typ); Pitch 5.45 mm)
pins: 1 G, 2 D, 3 S

## 2SK1880L
designator Q?
Silicon N-Channel MOSFET; Published: 30-Oct-2009; DatasheetVersion: Rev.2.00, Sep-2005; PackageVersion: Sep-2005; PackageReference: PRSS0004ZD-A; Publisher: Altium Limited; PackageDescription: TO, Thru-Hole, Vertical, Heatsink Mounted; 3 In-Line Leads (DPAK(L)-(1)); ComponentLink1Description: Manufacturer Link; ComponentLink1URL: http://sg.renesas.com/fmwk.jsp?cnt=discrete_category_landing.jsp&fp=/products/discrete/; ComponentLink2Description: Datasheet; ComponentLink2URL: http://documentation.renesas.com/eng/products/transistor/rej03g0983_2sk1880lsds.pdf; ComponentLink3Description: Packaging Specification; ComponentLink3URL: http://sg.renesas.com/media/products/common_info/package/pdf/transistor/code/prss0004zd_a.pdf
footprint PRSS0004ZD-A (TO, Thru-Hole, Vertical, Heatsink Mounted; 3 In-Line Leads; Pitch 2.28 mm)
pins: 1 G, 2 D, 3 S

## 2SK1880S
designator Q?
Silicon N-Channel MOSFET; Published: 30-Oct-2009; DatasheetVersion: Rev.2.00, Sep-2005; PackageVersion: Jan-2006; PackageReference: PRSS0004ZD-C; Publisher: Altium Limited; PackageDescription: 3-Pin Plastic Transistor Outline Package, 5.5 x 6.5 mm Body (DPAK(S)); Code_JEITA: SC-63; ComponentLink1Description: Manufacturer Link; ComponentLink1URL: http://sg.renesas.com/fmwk.jsp?cnt=discrete_category_landing.jsp&fp=/products/discrete/; ComponentLink2Description: Datasheet; ComponentLink2URL: http://documentation.renesas.com/eng/products/transistor/rej03g0983_2sk1880lsds.pdf; ComponentLink3Description: Packaging Specification; ComponentLink3URL: http://sg.renesas.com/media/products/common_info/package/pdf/transistor/code/prss0004zd_c.pdf
footprint PRSS0004ZD-C_N (D-PAK, 4-Leads, Body 5.5x6.5mm, Pitch 2.3mm, Lead Span 9.9mm, IPC Medium Density)
footprint PRSS0004ZD-C_L (D-PAK, 4-Leads, Body 5.5x6.5mm, Pitch 2.3mm, Lead Span 9.9mm, IPC High Density)
footprint PRSS0004ZD-C_M (D-PAK, 4-Leads, Body 5.5x6.5mm, Pitch 2.3mm, Lead Span 9.9mm, IPC Low Density)
pins: 1 G, 3 S, 4 D

## 2SK1933
designator Q?
Silicon N-Channel MOSFET; Published: 30-Oct-2009; DatasheetVersion: Rev.3.00, Apr-2006; PackageVersion: Sep-2005; PackageReference: PRSS0004ZE-A; Publisher: Altium Limited; PackageDescription: TO, Thru-Hole, Vertical, Heatsink Mounted; 3 In-Line Leads; Pitch 5.45 mm (TO-3P); Code_JEITA: SC-65; ComponentLink1Description: Manufacturer Link; ComponentLink1URL: http://sg.renesas.com/fmwk.jsp?cnt=discrete_category_landing.jsp&fp=/products/discrete/; ComponentLink2Description: Datasheet; ComponentLink2URL: http://documentation.renesas.com/eng/products/transistor/rej03g0984_2sk1933ds.pdf; ComponentLink3Description: Packaging Specification; ComponentLink3URL: http://sg.renesas.com/media/products/common_info/package/pdf/transistor/code/prss0004ze_a.pdf
footprint PRSS0004ZE-A (TO, Thru-Hole, Vertical, Heatsink Mounted; 3 In-Line Leads; Pitch 5.45 mm)
pins: 1 G, 2 D, 3 S

## 2SK1934
designator Q?
Silicon N-Channel MOSFET; Published: 30-Oct-2009; DatasheetVersion: Rev.2.00, Sep-2005; PackageVersion: Sep-2005; PackageReference: PRSS0004ZE-A; Publisher: Altium Limited; PackageDescription: TO, Thru-Hole, Vertical, Heatsink Mounted; 3 In-Line Leads; Pitch 5.45 mm (TO-3P); Code_JEITA: SC-65; ComponentLink1Description: Manufacturer Link; ComponentLink1URL: http://sg.renesas.com/fmwk.jsp?cnt=discrete_category_landing.jsp&fp=/products/discrete/; ComponentLink2Description: Datasheet; ComponentLink2URL: http://documentation.renesas.com/eng/products/transistor/rej03g0985_2sk1934ds.pdf; ComponentLink3Description: Packaging Specification; ComponentLink3URL: http://sg.renesas.com/media/products/common_info/package/pdf/transistor/code/prss0004ze_a.pdf
footprint PRSS0004ZE-A (TO, Thru-Hole, Vertical, Heatsink Mounted; 3 In-Line Leads; Pitch 5.45 mm)
pins: 1 G, 2 D, 3 S

## 2SK1947
designator Q?
Silicon N-Channel MOSFET; Published: 30-Oct-2009; DatasheetVersion: Rev.3.00, May-2009; PackageVersion: Sep-2005; PackageReference: PRSS0004ZF-A; Publisher: Altium Limited; PackageDescription: SIP with Mounting Hole; 3 Leads; Body 26 x 20 x 5 mm (typ); Pitch 5.45 mm (TO-3PL); ComponentLink1Description: Manufacturer Link; ComponentLink1URL: http://sg.renesas.com/fmwk.jsp?cnt=discrete_category_landing.jsp&fp=/products/discrete/; ComponentLink2Description: Datasheet; ComponentLink2URL: http://documentation.renesas.com/eng/products/transistor/rej03g0986_2sk1947ds.pdf; ComponentLink3Description: Packaging Specification; ComponentLink3URL: http://sg.renesas.com/media/products/common_info/package/pdf/transistor/code/prss0004zf_a.pdf
footprint PRSS0004ZF-A (SIP with Mounting Hole; 3 Leads; Body 26 x 20 x 5 mm (typ); Pitch 5.45 mm)
pins: 1 G, 2 D, 3 S

## 2SK1948
designator Q?
Silicon N-Channel MOSFET; Published: 30-Oct-2009; DatasheetVersion: Rev.3.00, May-2009; PackageVersion: Sep-2005; PackageReference: PRSS0004ZF-A; Publisher: Altium Limited; PackageDescription: SIP with Mounting Hole; 3 Leads; Body 26 x 20 x 5 mm (typ); Pitch 5.45 mm (TO-3PL); ComponentLink1Description: Manufacturer Link; ComponentLink1URL: http://sg.renesas.com/fmwk.jsp?cnt=discrete_category_landing.jsp&fp=/products/discrete/; ComponentLink2Description: Datasheet; ComponentLink2URL: http://documentation.renesas.com/eng/products/transistor/rej03g0987_2sk1948ds.pdf; ComponentLink3Description: Packaging Specification; ComponentLink3URL: http://sg.renesas.com/media/products/common_info/package/pdf/transistor/code/prss0004zf_a.pdf
footprint PRSS0004ZF-A (SIP with Mounting Hole; 3 Leads; Body 26 x 20 x 5 mm (typ); Pitch 5.45 mm)
pins: 1 G, 2 D, 3 S

## 2SK1957
designator Q?
Silicon N-Channel MOSFET; Published: 30-Oct-2009; DatasheetVersion: Rev.2.00, Sep-2005; PackageVersion: Sep-2005; PackageReference: PRSS0003AD-A; Publisher: Altium Limited; PackageDescription: TO, Thru-Hole, Vertical, Heatsink Mounted; 3 In-Line Leads; Pitch 2.54 mm; Code_JEITA: SC-67; ComponentLink1Description: Manufacturer Link; ComponentLink1URL: http://sg.renesas.com/fmwk.jsp?cnt=discrete_category_landing.jsp&fp=/products/discrete/; ComponentLink2Description: Datasheet; ComponentLink2URL: http://documentation.renesas.com/eng/products/transistor/rej03g0988_2sk1957ds.pdf; ComponentLink3Description: Packaging Specification; ComponentLink3URL: http://sg.renesas.com/media/products/common_info/package/pdf/transistor/code/prss0003ad_a.pdf
footprint PRSS0003AD-A (TO, Thru-Hole, Vertical, Heatsink Mounted; 3 In-Line Leads; Pitch 2.54 mm)
pins: 1 G, 2 D, 3 S

## 2SK1968
designator Q?
Silicon N-Channel MOSFET; Published: 30-Oct-2009; DatasheetVersion: Rev.2.00, Sep-2005; PackageVersion: Sep-2005; PackageReference: PRSS0004ZE-A; Publisher: Altium Limited; PackageDescription: TO, Thru-Hole, Vertical, Heatsink Mounted; 3 In-Line Leads; Pitch 5.45 mm (TO-3P); Code_JEITA: SC-65; ComponentLink1Description: Manufacturer Link; ComponentLink1URL: http://sg.renesas.com/fmwk.jsp?cnt=discrete_category_landing.jsp&fp=/products/discrete/; ComponentLink2Description: Datasheet; ComponentLink2URL: http://documentation.renesas.com/eng/products/transistor/rej03g0989_2sk1968ds.pdf; ComponentLink3Description: Packaging Specification; ComponentLink3URL: http://sg.renesas.com/media/products/common_info/package/pdf/transistor/code/prss0004ze_a.pdf
footprint PRSS0004ZE-A (TO, Thru-Hole, Vertical, Heatsink Mounted; 3 In-Line Leads; Pitch 5.45 mm)
pins: 1 G, 2 D, 3 S

## 2SK1971
designator Q?
Silicon N-Channel MOSFET; Published: 30-Oct-2009; DatasheetVersion: Rev.3.00, May-2009; PackageVersion: Sep-2005; PackageReference: PRSS0004ZF-A; Publisher: Altium Limited; PackageDescription: SIP with Mounting Hole; 3 Leads; Body 26 x 20 x 5 mm (typ); Pitch 5.45 mm (TO-3PL); ComponentLink1Description: Manufacturer Link; ComponentLink1URL: http://sg.renesas.com/fmwk.jsp?cnt=discrete_category_landing.jsp&fp=/products/discrete/; ComponentLink2Description: Datasheet; ComponentLink2URL: http://documentation.renesas.com/eng/products/transistor/rej03g0990_2sk1971ds.pdf; ComponentLink3Description: Packaging Specification; ComponentLink3URL: http://sg.renesas.com/media/products/common_info/package/pdf/transistor/code/prss0004zf_a.pdf
footprint PRSS0004ZF-A (SIP with Mounting Hole; 3 Leads; Body 26 x 20 x 5 mm (typ); Pitch 5.45 mm)
pins: 1 G, 2 D, 3 S

## 2SK2007
designator Q?
Silicon N-Channel MOSFET; Published: 30-Oct-2009; DatasheetVersion: Rev.2.00, Sep-2005; PackageVersion: Sep-2005; PackageReference: PRSS0004ZE-A; Publisher: Altium Limited; PackageDescription: TO, Thru-Hole, Vertical, Heatsink Mounted; 3 In-Line Leads; Pitch 5.45 mm (TO-3P); Code_JEITA: SC-65; ComponentLink1Description: Manufacturer Link; ComponentLink1URL: http://sg.renesas.com/fmwk.jsp?cnt=discrete_category_landing.jsp&fp=/products/discrete/; ComponentLink2Description: Datasheet; ComponentLink2URL: http://documentation.renesas.com/eng/products/transistor/rej03g0991_2sk2007ds.pdf; ComponentLink3Description: Packaging Specification; ComponentLink3URL: http://sg.renesas.com/media/products/common_info/package/pdf/transistor/code/prss0004ze_a.pdf
footprint PRSS0004ZE-A (TO, Thru-Hole, Vertical, Heatsink Mounted; 3 In-Line Leads; Pitch 5.45 mm)
pins: 1 G, 2 D, 3 S

## 2SK2008
designator Q?
Silicon N-Channel MOSFET; Published: 30-Oct-2009; DatasheetVersion: Rev.2.00, Sep-2005; PackageVersion: Sep-2005; PackageReference: PRSS0003ZA-A; Publisher: Altium Limited; PackageDescription: SIP with Mounting Hole; 3 Leads; Body 19.9 x 15.6 x 5.5 mm (typ); Pitch 5.45 mm (TO-3PFM); Code_JEITA: SC-93; ComponentLink1Description: Manufacturer Link; ComponentLink1URL: http://sg.renesas.com/fmwk.jsp?cnt=discrete_category_landing.jsp&fp=/products/discrete/; ComponentLink2Description: Datasheet; ComponentLink2URL: http://documentation.renesas.com/eng/products/transistor/rej03g0992_2sk2008ds.pdf; ComponentLink3Description: Packaging Specification; ComponentLink3URL: http://sg.renesas.com/media/products/common_info/package/pdf/transistor/code/prss0003za_a.pdf
footprint PRSS0003ZA-A (SIP with Mounting Hole; 3 Leads; Body 19.9 x 15.6 x 5.5 mm (typ); Pitch 5.45 mm)
pins: 1 G, 2 D, 3 S

## 2SK2084L
designator Q?
Silicon N-Channel MOSFET; Published: 30-Oct-2009; DatasheetVersion: Rev.2.00, Sep-2005; PackageVersion: Sep-2005; PackageReference: PRSS0004ZD-B; Publisher: Altium Limited; PackageDescription: TO, Thru-Hole, Vertical, Heatsink Mounted; 3 In-Line Leads (DPAK(L)-(2)); ComponentLink1Description: Manufacturer Link; ComponentLink1URL: http://sg.renesas.com/fmwk.jsp?cnt=discrete_category_landing.jsp&fp=/products/discrete/; ComponentLink2Description: Datasheet; ComponentLink2URL: http://documentation.renesas.com/eng/products/transistor/rej03g0995_2sk2084lsds.pdf; ComponentLink3Description: Packaging Specification; ComponentLink3URL: http://sg.renesas.com/media/products/common_info/package/pdf/transistor/code/prss0004zd_b.pdf
footprint PRSS0004ZD-B (TO, Thru-Hole, Vertical, Heatsink Mounted; 3 In-Line Leads; Pitch 2.28 mm)
pins: 1 G, 2 D, 3 S

## 2SK2084S
designator Q?
Silicon N-Channel MOSFET; Published: 30-Oct-2009; DatasheetVersion: Rev.2.00, Sep-2005; PackageVersion: Jan-2006; PackageReference: PRSS0004ZD-C; Publisher: Altium Limited; PackageDescription: 3-Pin Plastic Transistor Outline Package, 5.5 x 6.5 mm Body (DPAK(S)); Code_JEITA: SC-63; ComponentLink1Description: Manufacturer Link; ComponentLink1URL: http://sg.renesas.com/fmwk.jsp?cnt=discrete_category_landing.jsp&fp=/products/discrete/; ComponentLink2Description: Datasheet; ComponentLink2URL: http://documentation.renesas.com/eng/products/transistor/rej03g0995_2sk2084lsds.pdf; ComponentLink3Description: Packaging Specification; ComponentLink3URL: http://sg.renesas.com/media/products/common_info/package/pdf/transistor/code/prss0004zd_c.pdf
footprint PRSS0004ZD-C_N (D-PAK, 4-Leads, Body 5.5x6.5mm, Pitch 2.3mm, Lead Span 9.9mm, IPC Medium Density)
footprint PRSS0004ZD-C_L (D-PAK, 4-Leads, Body 5.5x6.5mm, Pitch 2.3mm, Lead Span 9.9mm, IPC High Density)
footprint PRSS0004ZD-C_M (D-PAK, 4-Leads, Body 5.5x6.5mm, Pitch 2.3mm, Lead Span 9.9mm, IPC Low Density)
pins: 1 G, 3 S, 4 D

## 2SK2114
designator Q?
Silicon N-Channel MOSFET; Published: 30-Oct-2009; DatasheetVersion: Rev.2.00, Sep-2005; PackageVersion: Sep-2005; PackageReference: PRSS0003AE-A; Publisher: Altium Limited; PackageDescription: TO, Thru-Hole, Vertical, Heatsink Mounted; 3 In-Line Leads; Pitch 2.54 mm (TO-220FN); ComponentLink1Description: Manufacturer Link; ComponentLink1URL: http://sg.renesas.com/fmwk.jsp?cnt=discrete_category_landing.jsp&fp=/products/discrete/; ComponentLink2Description: Datasheet; ComponentLink2URL: http://documentation.renesas.com/eng/products/transistor/rej03g0998_2sk2114ds.pdf; ComponentLink3Description: Packaging Specification; ComponentLink3URL: http://sg.renesas.com/media/products/common_info/package/pdf/transistor/code/prss0003ae_a.pdf
footprint PRSS0003AE-A (TO, Thru-Hole, Vertical, Heatsink Mounted; 3 In-Line Leads; Pitch 2.54 mm)
pins: 1 G, 2 D, 3 S

## 2SK2202
designator Q?
Silicon N-Channel MOSFET; Published: 30-Oct-2009; DatasheetVersion: Rev.2.00, Sep-2005; PackageVersion: Sep-2005; PackageReference: PRSS0003AD-A; Publisher: Altium Limited; PackageDescription: TO, Thru-Hole, Vertical, Heatsink Mounted; 3 In-Line Leads; Pitch 2.54 mm; Code_JEITA: SC-67; ComponentLink1Description: Manufacturer Link; ComponentLink1URL: http://sg.renesas.com/fmwk.jsp?cnt=discrete_category_landing.jsp&fp=/products/discrete/; ComponentLink2Description: Datasheet; ComponentLink2URL: http://documentation.renesas.com/eng/products/transistor/rej03g1002_2sk2202ds.pdf; ComponentLink3Description: Packaging Specification; ComponentLink3URL: http://sg.renesas.com/media/products/common_info/package/pdf/transistor/code/prss0003ad_a.pdf
footprint PRSS0003AD-A (TO, Thru-Hole, Vertical, Heatsink Mounted; 3 In-Line Leads; Pitch 2.54 mm)
pins: 1 G, 2 D, 3 S

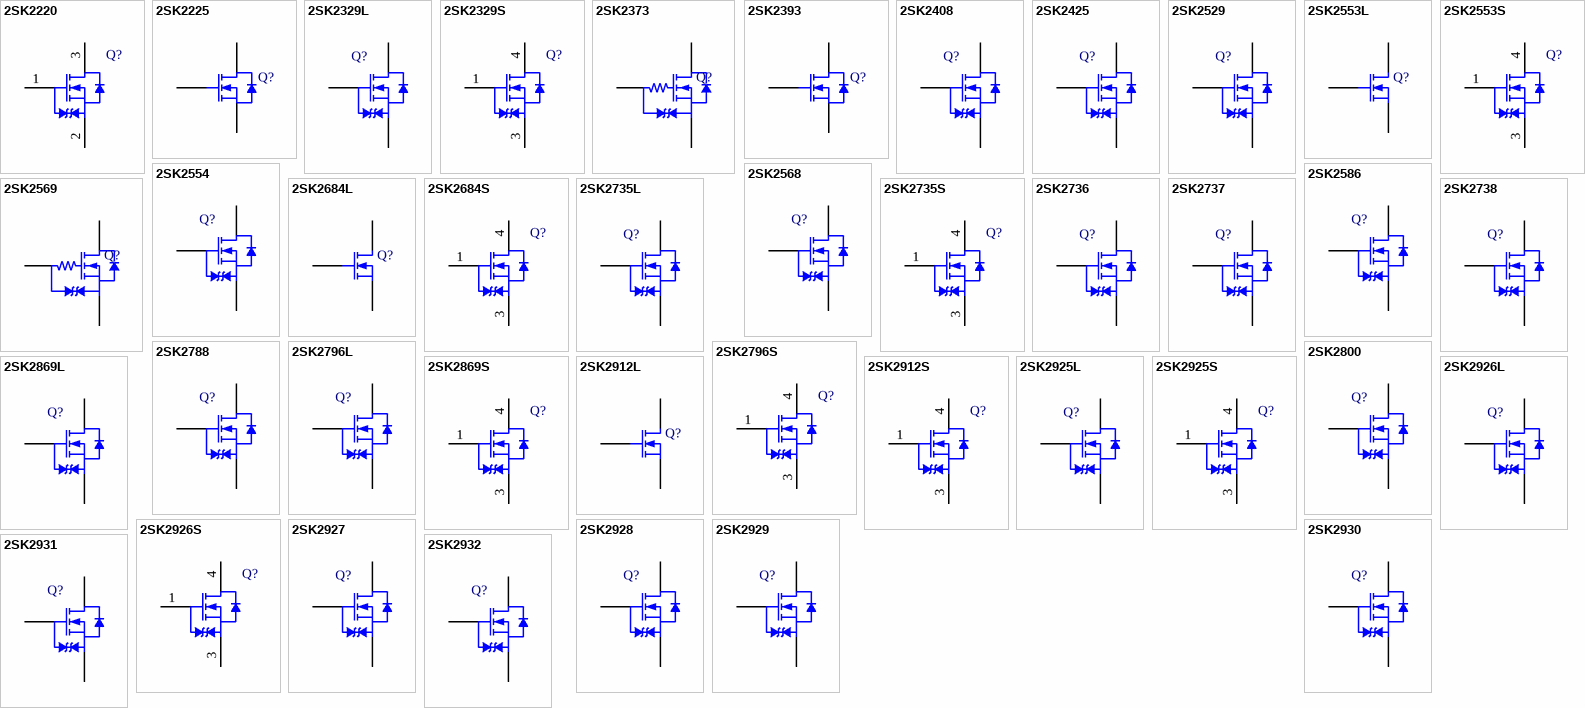
[diagram p5: symbols 2SK2220 to 2SK2932]

## 2SK2220
designator Q?
Silicon N-Channel MOSFET; Published: 30-Oct-2009; DatasheetVersion: Rev.2.00, Sep-2005; PackageVersion: Sep-2005; PackageReference: PRSS0004ZE-A; Publisher: Altium Limited; PackageDescription: TO, Thru-Hole, Vertical, Heatsink Mounted; 3 In-Line Leads; Pitch 5.45 mm (TO-3P); Code_JEITA: SC-65; ComponentLink1Description: Manufacturer Link; ComponentLink1URL: http://sg.renesas.com/fmwk.jsp?cnt=discrete_category_landing.jsp&fp=/products/discrete/; ComponentLink2Description: Datasheet; ComponentLink2URL: http://documentation.renesas.com/eng/products/transistor/rej03g1004_2sk2220ds.pdf; ComponentLink3Description: Packaging Specification; ComponentLink3URL: http://sg.renesas.com/media/products/common_info/package/pdf/transistor/code/prss0004ze_a.pdf
footprint PRSS0004ZE-A (TO, Thru-Hole, Vertical, Heatsink Mounted; 3 In-Line Leads; Pitch 5.45 mm)
pins: 1 G, 2 S, 3 D

## 2SK2225
designator Q?
Silicon N-Channel MOSFET; Published: 30-Oct-2009; DatasheetVersion: Rev.2.00, Sep-2005; PackageVersion: Sep-2005; PackageReference: PRSS0003ZA-A; Publisher: Altium Limited; PackageDescription: SIP with Mounting Hole; 3 Leads; Body 19.9 x 15.6 x 5.5 mm (typ); Pitch 5.45 mm (TO-3PFM); Code_JEITA: SC-93; ComponentLink1Description: Manufacturer Link; ComponentLink1URL: http://sg.renesas.com/fmwk.jsp?cnt=discrete_category_landing.jsp&fp=/products/discrete/; ComponentLink2Description: Datasheet; ComponentLink2URL: http://documentation.renesas.com/eng/products/transistor/rej03g1005_2sk2225ds.pdf; ComponentLink3Description: Packaging Specification; ComponentLink3URL: http://sg.renesas.com/media/products/common_info/package/pdf/transistor/code/prss0003za_a.pdf
footprint PRSS0003ZA-A (SIP with Mounting Hole; 3 Leads; Body 19.9 x 15.6 x 5.5 mm (typ); Pitch 5.45 mm)
pins: 1 G, 2 D, 3 S